# Altium schematic symbol library GPI65030DFN.SchLib: 1 symbol
Pins are listed as number, name and electrical type; pins without a type are passive.

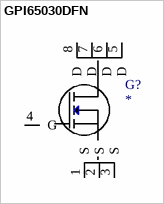
[diagram p0: symbol GPI65030DFN]

## GPI65030DFN
designator G?
footprint DFN795P800X45-4N (DFN, 4-Leads, Body 8.00x8.00mm, Pitch 7.95mm, IPC Medium Density)
pins: 1 S, 2 S, 3 S, 4 G, 5 D, 6 D, 7 D, 8 D